# Altium schematic symbol library Small Jumper.SchLib: 1 symbol
Pins are listed as number, name and electrical type; pins without a type are passive.

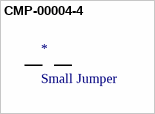
[diagram p0: symbol CMP-00004-4]

## CMP-00004-4
designator *, comment Small Jumper
Small Jumper For Low Current And Voltage
footprint Small Jumper-Footprint-1
pins: 1, 2